# Altium footprint library PINHEADER2X3.PcbLib: 1 footprints
Each footprint in its own frame and in the unit in brackets; x right, y up, seen from the top. Pads: shape width x height; smd on the part's side, far side on the other; paste and mask are expansions set on the pad; w line width, h text height; cw(c..) or ccw(c..) is an arc to the next point about the centre after c.
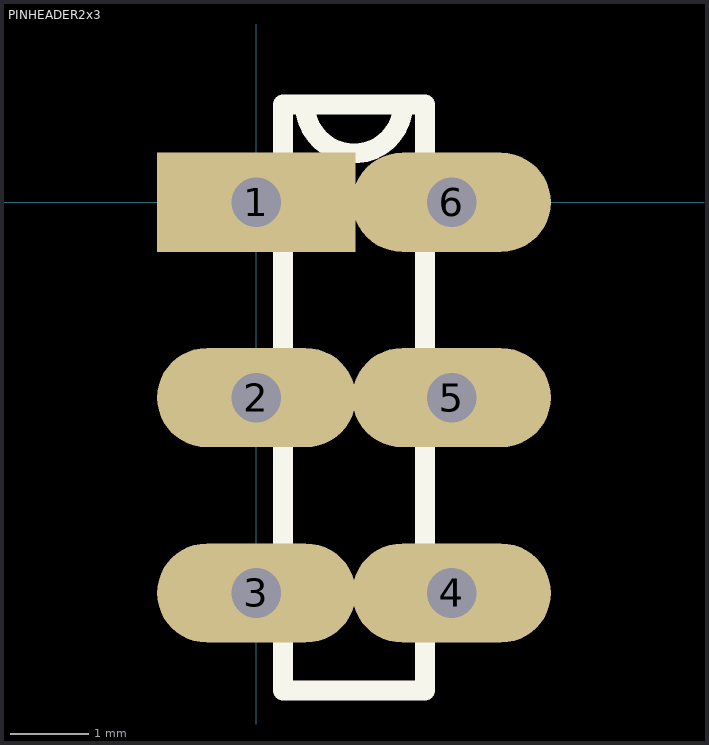
[diagram p0: the footprint, top view; thin cyan lines are the x and y axes]

## PINHEADER2x3 [mm]
pads (6):
  rect 2.54x1.27 hole 0.635: 1(0,0)
  oval 2.54x1.27 hole 0.635: 2(0,-2.5) 3(0,-5) 4(2.5,-5) 5(2.5,-2.5) 6(2.5,0)
Top Overlay:
  lines w0.254: 0.341,-6.25 0.341,1.25 1.875,1.25 cw(c1.25,1.25) 0.625,1.25 2.159,1.25 2.159,-6.25 0.341,-6.25